# EAGLE library part LT3060 (library 1V8)
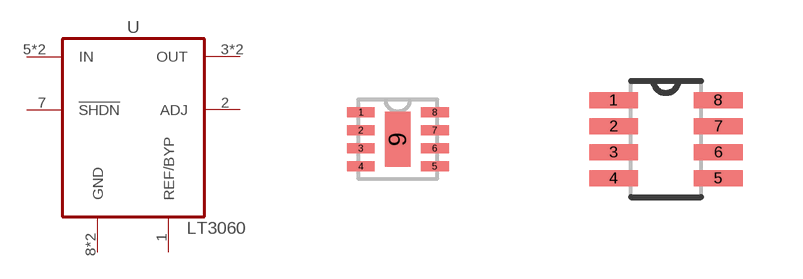
[diagram p17: symbol with the pads of LINEAR_DC8; footprints LINEAR_DC8, LINEAR_TS8]

Designator prefix U

## LT3060EDC, LT3060IDC  [LINEAR_DC8]
1  REF/BYP  in
2  ADJ  in
3  OUT  sup
4  OUT  sup
5  IN  pwr
6  IN  pwr
7  !SHDN  in
8  GND  pas
9  GND  pas

## LT3060ETS8 (TEMP_RANGE: -40 to 125*C), LT3060HTS8 (TEMP_RANGE: -40 to 150*C), LT3060ITS8 (TEMP_RANGE: -40 to 125*C), LT3060MPTS8 (TEMP_RANGE: -55 to 150*C)  [LINEAR_TS8]
1  !SHDN  in
2  GND  pas
3  GND  pas
4  GND  pas
5  IN  pwr
6  OUT  sup
7  ADJ  in
8  REF/BYP  in

## Footprint LINEAR_DC8 (pad centres in mm)
smd 0.7 x 0.25: 1 -0.925,0.675; 2 -0.925,0.225; 3 -0.925,-0.225; 4 -0.925,-0.675; 5 0.925,-0.675; 6 0.925,-0.225; 7 0.925,0.225; 8 0.925,0.675
smd 0.64 x 1.37: 9 0,0

## Footprint LINEAR_TS8 (pad centres in mm)
smd 1.22 x 0.4: 1 -1.31,0.975; 2 -1.31,0.325; 3 -1.31,-0.325; 4 -1.31,-0.975; 5 1.31,-0.975; 6 1.31,-0.325; 7 1.31,0.325; 8 1.31,0.975